# Altium schematic symbol library QUTMS_CrystalLibrary.SchLib: 1 symbol
Pins are listed as number, name and electrical type; pins without a type are passive.

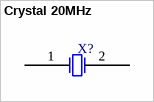
[diagram p0: symbol Crystal 20MHz]

## Crystal 20MHz
designator X?
ComponentLink1Description: Datasheet; ComponentLink1URL: http://cfd.citizen.co.jp/english/prod-tech/product/pdf/datasheet_AT/HCM49_E.pdf
footprint Crystal 20MHz
pins: 1, 2